# Altium schematic symbol library C0805C106J8RACAUTO.SchLib: 1 symbol
Pins are listed as number, name and electrical type; pins without a type are passive.

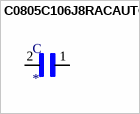
[diagram p0: symbol C0805C106J8RACAUTO]

## C0805C106J8RACAUTO
designator C
10ÂµF Â±5% 10V Ceramic Capacitor X7R 0805 _2012 Metric_; MP: C0805C106J8RACAUTO; MF: KEMET; Price: None; SnapEDA_Link: https://www.snapeda.com/parts/C0805C106J8RACAUTO/KEMET/view-part/3596814/?ref=snap; Availability: Unavailable; Value: *; Package: 0805 KEMET
footprint CAPC2012X88N
pins: 1, 2